# EAGLE library part ELECTROPARK (library konwerter_poziomow)
konwerter poziomów logicznych
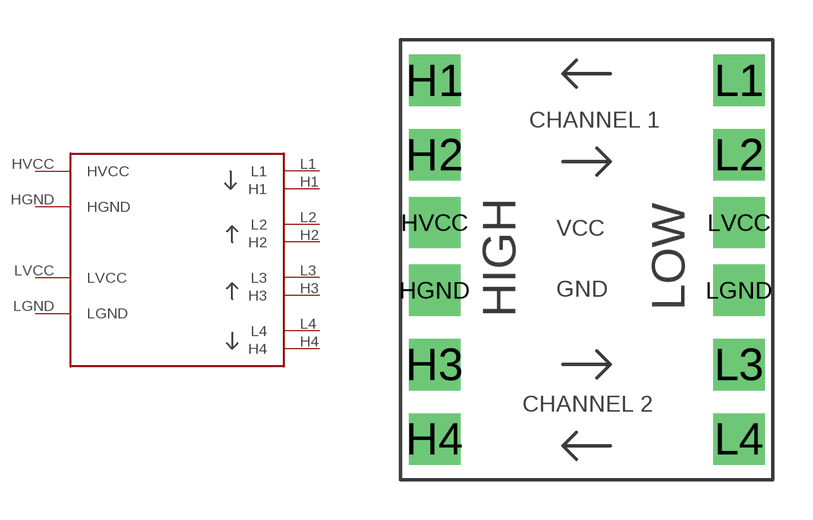
[diagram p0: symbol with the pads of ELECTROPARK; footprint ELECTROPARK]

Designator prefix -

## ELECTROPARK  [ELECTROPARK]
H1  H1
H2  H2
H3  H3
H4  H4
HGND  HGND
HVCC  HVCC
L1  L1
L2  L2
L3  L3
L4  L4
LGND  LGND
LVCC  LVCC

## Footprint ELECTROPARK (pad centres in mm)
drill 0.5 pad 1.93 square: H1 1.27,-1.524; H2 1.27,-4.318; H3 1.27,-12.192; H4 1.27,-14.986; HGND 1.27,-9.398; HVCC 1.27,-6.858; L1 12.7,-1.524; L2 12.7,-4.318; L3 12.7,-12.192; L4 12.7,-14.986; LGND 12.7,-9.398; LVCC 12.7,-6.858